# Altium schematic symbol library regulator.SchLib: 33 symbols
Pins are listed as number, name and electrical type; pins without a type are passive.

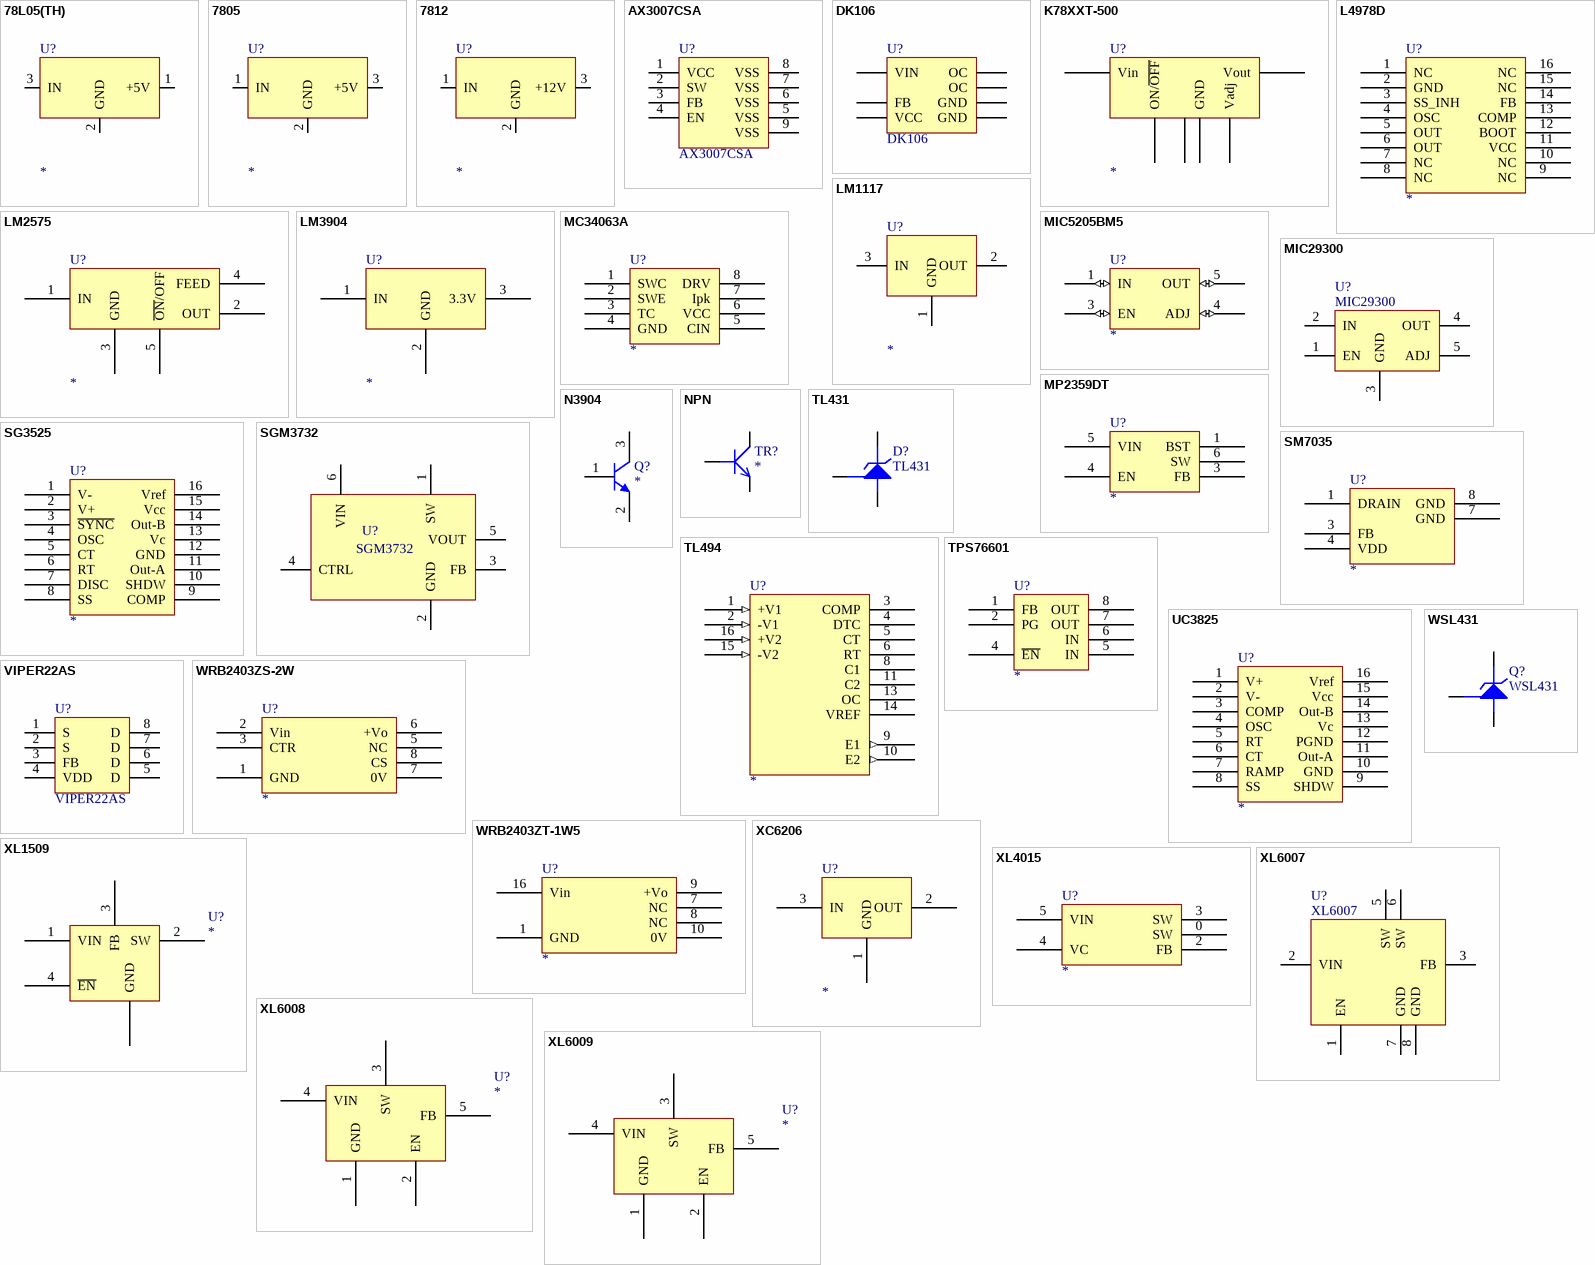
[diagram p0: symbols 78L05(TH) to XL6009]

## 78L05(TH)
designator U?
footprint TO-92C
pins: 1 +5V, 2 GND (power), 3 IN

## 7805
designator U?
footprint TO-263
footprint SOT-233
footprint TO-220V
pins: 1 IN, 2 GND (power), 3 +5V

## 7812
designator U?
footprint TO-263
footprint SOT-233
footprint TO-220V
pins: 1 IN, 2 GND (power), 3 +12V

## AX3007CSA
designator U?
SN: CL001010112; DES: AX3007-50ESA
footprint SOP-8
pins: 1 VCC, 2 SW, 3 FB, 4 EN, 5 VSS, 6 VSS, 7 VSS, 8 VSS, 9 VSS

## DK106
designator U?
footprint SOP-8
pins: 1 VIN, 2 NC hidden, 3 FB, 4 VCC, 5 GND, 6 GND, 7 OC, 8 OC

## K78XXT-500
designator U?
footprint DIP-10
pins: 1 Vin, 5 Vout, 6 Vadj, 7 GND, 9 GND, 10 ON/~{OFF}

## L4978D
designator U?
footprint SO16W
pins: 1 NC, 2 GND (power), 3 SS_INH, 4 OSC, 5 OUT, 6 OUT, 7 NC, 8 NC, 9 NC, 10 NC, 11 VCC (power), 12 BOOT, 13 COMP, 14 FB, 15 NC, 16 NC

## LM1117
designator U?
footprint SOT-223
pins: 1 GND, 2 OUT, 3 IN

## LM2575
designator U?
footprint D2PAK
pins: 1 IN, 2 OUT (power), 3 GND, 4 FEED, 5 ~{ON}/OFF

## LM3904
designator U?
footprint TO-263
footprint SOT-233
pins: 1 IN, 2 GND (power), 3 3.3V

## MC34063A
designator U?
footprint SOP-8
footprint DIP-8
pins: 1 SWC, 2 SWE, 3 TC, 4 GND, 5 CIN, 6 VCC, 7 Ipk, 8 DRV

## MIC5205BM5
designator U?
150mA Low-Noise LDO Regulator
footprint SOT-23-5
pins: 1 IN (io), 2 GND (power) hidden to GND, 3 EN (io), 4 ADJ (io), 5 OUT (io)

## MIC29300
designator U?
footprint D2PAK
pins: 1 EN, 2 IN, 3 GND, 4 OUT, 5 ADJ

## MP2359DT
designator U?
footprint SOT23-6
pins: 1 BST, 2 GND (power) hidden to GND, 3 FB, 4 EN, 5 VIN, 6 SW

## N3904
designator Q?
footprint SOT-23
pins: 1 B, 2 E, 3 C

## NPN
designator TR?
footprint SOT-23
pins: 1, 2, 3

## SG3525
designator U?
footprint DIP-16
pins: 1 V-, 2 V+, 3 ~{SYNC}, 4 OSC, 5 CT, 6 RT, 7 DISC, 8 SS, 9 COMP, 10 SHDW, 11 Out-A, 12 GND, 13 Vc, 14 Out-B, 15 Vcc, 16 Vref

## SGM3732
designator U?
Part Description: LCM driver; Value: SGM3732; PCB DECAL: SGM3732
footprint SOT-23-6
pins: 1 SW, 2 GND, 3 FB, 4 CTRL, 5 VOUT, 6 VIN

## SM7035
designator U?
footprint SOP-8
pins: 1 DRAIN, 2 NC hidden, 3 FB, 4 VDD, 5 NC hidden, 6 NC hidden, 7 GND, 8 GND

## TL431
designator D?
Zener Diode
footprint TO-92A
footprint TO-92B
footprint TO-92C
pins: 1, 2, 3

## TL494
designator U?
footprint DIP-16
pins: 1 +V1 (in), 2 -V1 (in), 3 COMP, 4 DTC, 5 CT, 6 RT, 7 GND (power) hidden to GND, 8 C1, 9 E1 (out), 10 E2 (out), 11 C2, 12 VCC (power) hidden to VCC, 13 OC, 14 VREF, 15 -V2 (in), 16 +V2 (in)

## TPS76601
designator U?
footprint SOP-8
pins: 1 FB, 2 PG, 3 GND (power) hidden to GND, 4 ~{EN}, 5 IN, 6 IN, 7 OUT, 8 OUT

## UC3825
designator U?
footprint DIP-16
pins: 1 V+, 2 V-, 3 COMP, 4 OSC, 5 RT, 6 CT, 7 RAMP, 8 SS, 9 SHDW, 10 GND, 11 Out-A, 12 PGND, 13 Vc, 14 Out-B, 15 Vcc, 16 Vref

## VIPER22AS
designator U?
footprint so-8a
footprint SOP-8
pins: 1 S, 2 S, 3 FB, 4 VDD, 5 D, 6 D, 7 D, 8 D
2 alternate drawings of the same symbol

## WRB2403ZS-2W
designator U?
footprint WRZS3W
pins: 1 GND, 2 Vin, 3 CTR, 5 NC, 6 +Vo, 7 0V, 8 CS

## WRB2403ZT-1W5
designator U?
footprint WRZT1W5
pins: 1 GND, 7 NC, 8 NC, 9 +Vo, 10 0V, 16 Vin

## WSL431
designator Q?
Zener Diode
footprint SOT-23
pins: 1, 2, 3

## XC6206
designator U?
footprint SOT-23
footprint SOT-89
pins: 1 GND, 2 OUT, 3 IN

## XL1509
designator U?
footprint SOP-8
pins: 1 VIN, 2 SW, 3 FB, 4 ~{EN}, 5 GND (power) hidden to GND, 6 GND (power) hidden to GND, 7 GND (power) hidden to GND, 8 GND (power)

## XL4015
designator U?
footprint TO263-5L
pins: 0 SW, 1 GND hidden to GND, 2 FB, 3 SW, 4 VC, 5 VIN

## XL6007
designator U?
footprint SOP-8
pins: 1 EN, 2 VIN, 3 FB, 4 NC hidden, 5 SW, 6 SW, 7 GND, 8 GND

## XL6008
designator U?
footprint TO252-5L
pins: 1 GND, 2 EN, 3 SW, 4 VIN, 5 FB

## XL6009
designator U?
footprint TO263-5L
pins: 1 GND, 2 EN, 3 SW, 4 VIN, 5 FB